# EAGLE library part 2-5747706-0 (library con-subd)
SUB-D FEMALE TE CONNECTIVITY
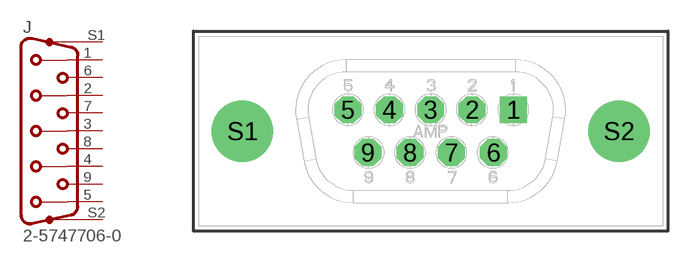
[diagram p85: symbol with the pads of 2-5747706-0; footprint 2-5747706-0]

Designator prefix J

## 2-5747706-0  [2-5747706-0]
1  1  pas
2  2  pas
3  3  pas
4  4  pas
5  5  pas
6  6  pas
7  7  pas
8  8  pas
9  9  pas
S1  G1  pas
S2  G2  pas

## Footprint 2-5747706-0 (pad centres in mm)
SUB-D FEMALE
drill 1.041 pad 1.778 square: 1 5.486,1.422
drill 1.041 pad 1.778 octagon: 2 2.743,1.422; 3 0,1.422; 4 -2.743,1.422; 5 -5.486,1.422; 6 4.166,-1.422; 7 1.372,-1.422; 8 -1.372,-1.422; 9 -4.166,-1.422
drill 3.073: S1 -12.497,0; S2 12.497,0